# Altium footprint library PcbLib_ZG.PcbLib: 87 footprints (part 2 of 6)
Each footprint in its own frame and in the unit in brackets; x right, y up, seen from the top. Pads: shape width x height; smd on the part's side, far side on the other; paste and mask are expansions set on the pad; w line width, h text height; cw(c..) or ccw(c..) is an arc to the next point about the centre after c.
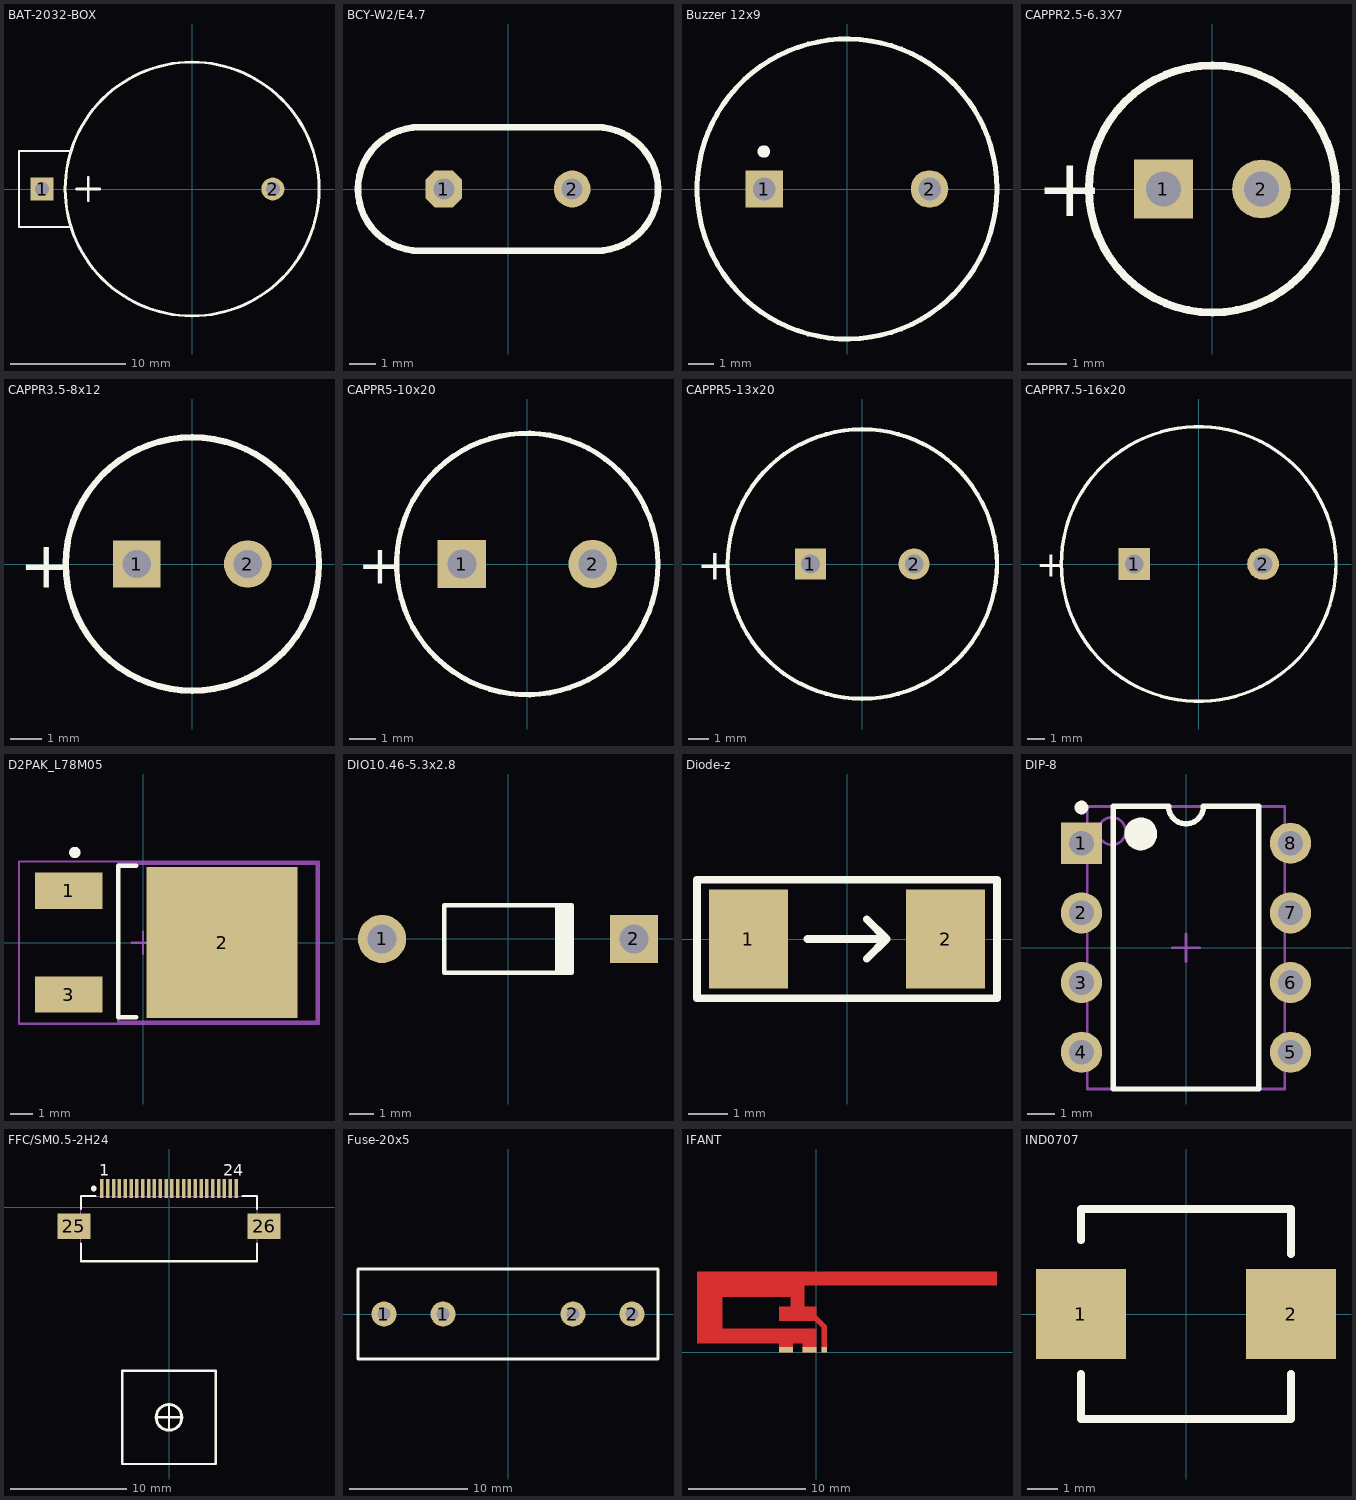
[diagram p1: the footprints below, top view; thin cyan lines are the x and y axes]

## BAT-2032-BOX [mm]
height 3
pads (2):
  rect 2x2 hole 1.2: 1(-13,0)
  round 2 hole 1.2: 2(7,0)
Top Overlay:
  circle w0.254: c0,0 r11
  lines w0.2: -10.5,-3.3 -15,-3.3 -15,3.3 -10.5,3.3
  lines w0.254: -10,0 -8,0 ; -9,-1 -9,1
3D body: height 5, standoff 0, extent -15,-3.3 -10.5,3.3
3D body: height 5, standoff 0, extent -10.913,-11.078 11,10.879

## BCY-W2/E4.7 [mm] "Quartz Crystal, Thru-Hole; 2 Leads; Body 11.35 x 4.65 x 13.46 mm (LxWxH max)"
height 13.46
pads (2):
  oct 1.4x1.4 hole 0.8: 1(-2.44,0)
  round 1.4 hole 0.8: 2(2.44,0)
Top Overlay:
  lines w0.254: -5.7,0 ccw(c-3.35,0) -3.35,-2.35 3.35,-2.35 ccw(c3.35,0) 5.7,0 ccw(c3.35,0) 3.35,2.35 0,2.35 -3.35,2.35 ccw(c-3.35,0) -5.7,0
3D body: height 3, standoff 0, extent -5.7,-2.4 5.7,2.4

## Buzzer 12x9 [mm] "Buzzer 12mm x 9mm 6.6mm"
height 12
pads (2):
  rect 1.5x1.5 hole 0.9: 1(-3.3,0)
  round 1.5 hole 0.9: 2(3.3,0)
Top Overlay:
  circle w0.2: c0,0 r6
  circle w0.25: c-3.325,1.5 r0.125
3D body: height 12, standoff 2, extent -5.953,-5.988 6,5.988

## CAPPR2.5-6.3X7 [mm] "Capacitor, Electrolytic, Radial; Body 8 x 12 mm (Dia.xH typ); Pin Spacing 3.5 mm (typ)"
height 7
pads (2):
  rect 1.5x1.5 hole 0.9: 1(-1.25,0)
  round 1.5 hole 0.9: 2(1.25,0)
Top Overlay:
  circle w0.2: c0,0 r3.15
  text "+" at -4.5,-0.7 h1.5
3D body: height 8, standoff 0, extent -3.125,-3.144 3.15,3.144

## CAPPR3.5-8x12 [mm] "Capacitor, Electrolytic, Radial; Body 8 x 12 mm (Dia.xH typ); Pin Spacing 3.5 mm (typ)"
height 13.5
pads (2):
  rect 1.5x1.5 hole 0.9: 1(-1.75,0)
  round 1.5 hole 0.9: 2(1.75,0)
Top Overlay:
  circle w0.2: c0,0 r4
  text "+" at -5.475,-0.75 h1.5
3D body: height 12, standoff 0, extent -3.968,-3.992 4,3.992

## CAPPR5-10x20 [mm] "Capacitor, Electrolytic, Radial; Body 10 x 20 mm (Dia.xH typ); Pin Spacing 5 mm (typ)"
height 21
pads (2):
  rect 1.85x1.85 hole 1.1: 1(-2.5,0)
  round 1.85 hole 1.1: 2(2.5,0)
Top Overlay:
  circle w0.2: c0,0 r5
  text "+" at -6.475,-0.75 h1.5
3D body: height 20, standoff 0, extent -4.961,-4.99 5,4.99

## CAPPR5-13x20 [mm] "Capacitor, Electrolytic, Radial; Body 13 x 20 mm (Dia.xH typ); Pin Spacing 5 mm (typ)"
height 22
pads (2):
  rect 1.5x1.5 hole 0.9: 1(-2.5,0)
  round 1.5 hole 0.9: 2(2.5,0)
Top Overlay:
  circle w0.2: c0,0 r6.5
  text "+" at -7.975,-0.75 h1.5
3D body: height 22.5, standoff 2.5, extent -6.449,-6.487 6.5,6.487

## CAPPR7.5-16x20 [mm] "Capacitor, Electrolytic, Radial; Body 16 x 20 mm (Dia.xH typ); Pin Spacing 7.5 mm (typ)"
height 21.5
pads (2):
  rect 1.85x1.85 hole 1.1: 1(-3.75,0)
  round 1.85 hole 1.1: 2(3.75,0)
Top Overlay:
  circle w0.2: c0,0 r8
  text "+" at -9.475,-0.75 h1.5
3D body: height 22.5, standoff 2.5, extent -7.937,-7.984 8,7.984

## D2PAK_L78M05 [mm] "D2-PAK, 4-Leads, Body 8.8x10.4mm, Pitch 2.54mm, Lead Span 15.1mm, IPC High Density"
height 4.69
pads (3):
  rect 3x1.6 smd: 1(-3.3,2.3) 3(-3.3,-2.3)
  rect 6.7x6.7 smd: 2(3.5,0)
Top Overlay:
  circle w0.25: c-3.025,4 r0.125
  lines w0.2: -0.3,-3.3 -1.1,-3.3 -1.1,3.4 -0.3,3.4
Mechanical 13:
  lines w0.1: -1.1,-3.5 -1.1,3.5 7.7,3.5 7.7,-3.5 -1.1,-3.5
Mechanical 15:
  lines w0.1: -0.5,0 0.5,0 ; 0,-0.5 0,0.5 ; -5.5,-3.6 -5.5,3.6 7.8,3.6 7.8,-3.6 -5.5,-3.6
3D body: height 4.69, standoff 0, extent 0,-3.5 7.7,3.5

## DIO10.46-5.3x2.8 [mm] "Diode, Axial; Body 5.2 x 2.7 mm (LxDia. max), Lead Dia. 0.86 mm (max)"
height 2.8
pads (2):
  round 2 hole 1.2: 1(-5.23,0)
  rect 2x2 hole 1.2: 2(5.23,0)
Top Overlay:
  rectangle: 1.95,-1.403 2.75,1.397
  lines w0.2: 2.65,-1.4 -2.65,-1.4 -2.65,1.4 2.65,1.4
3D body: height 2.79, standoff 0, extent -2.6,-1.397 2.7,1.397

## Diode-z [mm]
pads (2):
  rect 2x2.5 smd: 1(-2.5,0) 2(2.5,0)
Top Overlay:
  lines w0.2: -1,0 1,0 ; 0.5,-0.5 1,0 ; 0.5,0.5 1,0 ; -3.8,-1.5 -3.8,1.5 3.8,1.5 3.8,-1.5 -3.8,-1.5

## DIP-8 [mm] "DIP; 8 Leads; Row Spacing 7.62 mm; Pitch 2.54 mm"
height 5.08
pads (8):
  rect 1.5x1.5 hole 0.9: 1(-3.81,3.81)
  round 1.5 hole 0.9: 2(-3.81,1.27) 3(-3.81,-1.27) 4(-3.81,-3.81) 5(3.81,-3.81) 6(3.81,-1.27) 7(3.81,1.27) 8(3.81,3.81)
Top Overlay:
  circle w0.6: c-1.65,4.15 r0.3
  circle w0.25: c-3.81,5.11 r0.125
  lines w0.2: -2.65,-5.15 2.65,-5.15 2.65,5.15 0.635,5.15 cw(c0,5.15) -0.635,5.15 -2.65,5.15 -2.65,-5.15
Mechanical 13:
  circle w0.1: c-2.7,4.25 r0.5
  lines w0.1: -3.6,-5.15 3.6,-5.15 3.6,5.15 -3.6,5.15 -3.6,-5.15
Mechanical 15:
  lines w0.1: -0.5,0 0.5,0 ; 0,-0.5 0,0.5
3D body: height 5.08, standoff 0, extent -3.6,-5.15 3.6,5.15

## FFC/SM0.5-2H24 [mm] "Connector; FH12 Series; 24 Position; 0.5mm Spaced Bottom Contact"
height 2
pads (26):
  rect 0.3x1.6 smd: 1(-5.75,1.625) 2(-5.25,1.625) 3(-4.75,1.625) 4(-4.25,1.625) 5(-3.75,1.625) 6(-3.25,1.625) 7(-2.75,1.625) 8(-2.25,1.625) 9(-1.75,1.625) 10(-1.25,1.625) 11(-0.75,1.625) 12(-0.25,1.625) 13(0.25,1.625) 14(0.75,1.625) 15(1.25,1.625) 16(1.75,1.625) 17(2.25,1.625) 18(2.75,1.625) 19(3.25,1.625) 20(3.75,1.625) 21(4.25,1.625) 22(4.75,1.625) 23(5.25,1.625) 24(5.75,1.625)
  rect 2.8x2.2 smd: 25(-8.15,-1.625) 26(8.15,-1.625)
Top Overlay:
  circle w0.254: c0,-18 r1.1
  circle w0.25: c-6.45,1.625 r0.125
  lines w0.2: -7.55,-3.125 -7.55,-4.625 7.55,-4.625 7.55,-3.125 ; -7.55,-0.125 -7.55,0.975 -6.3,0.975 ; -1.1,-18 1.1,-18 ; 0,-19 0,-17 ; 6.3,0.975 7.55,0.975 7.55,-0.125 ; -4,-22 -4,-14 4,-14 4,-22 -4,-22
  text "1" at -6,2.725 h1
  text "24" at 4.65,2.725 h1
Mechanical 13:
  lines w0.1: -7.55,-4.625 7.55,-4.625 7.55,0.975 -7.55,0.975 -7.55,-4.625
3D body: height 2, standoff 0, extent -7.55,-4.625 7.55,0.975

## Fuse-20x5 [mm]
pads (4):
  round 2.1 hole 1.1: 1(-10.5,0) 1(-5.5,0) 2(5.5,0) 2(10.5,0)
Top Overlay:
  lines w0.254: -12.7,-3.81 12.7,-3.81 12.7,3.81 -12.7,3.81 -12.7,-3.81
3D body: height 10, standoff 0, extent -12.7,-3.81 12.7,3.81

## IFANT [mm]
pads (3):
  rect 0.46x0.46 smd paste+0 mask+0: 1(0.68,0.23)
  rect 1.2x0.45 smd paste+0 mask+0: 2(-2.6,0.225) 2(-0.6,0.225)
Top Layer:
  region: 0.585,1.93 0.91,2.255 -0.323,3.487 -0.648,3.162
  rectangle: 0.45,0 0.91,2.255
  rectangle: -10.18,0.74 0,2.03
  rectangle: -3.2,0 -2,2.03
  rectangle: -1.2,0 0,2.03
  rectangle: -10.18,0.74 -8,6.91
  rectangle: -10.18,4.7 -1,6.91
  rectangle: -10.18,5.7 15.4,6.91
  rectangle: -2.2,2.69 -1,6.91
  rectangle: -3.2,2.69 0,3.9

## IND0707 [mm] "SM Inductor; 2 Leads; Body 10x8mm (LxW)"
height 4
pads (2):
  rect 3x3 smd: 1(-3.5,0) 2(3.5,0)
Top Overlay:
  lines w0.254: -3.5,-2 -3.5,-3.5 3.5,-3.5 3.5,-2 ; -3.5,2.46 -3.5,3.5 3.5,3.5 3.5,2
3D body: height 4, standoff 0, extent -3.5,-3.5 3.5,3.5